# Altium footprint library HDR-TH_19P-P2.54-V-F.PcbLib: 1 footprints
Each footprint in its own frame and in the unit in brackets; x right, y up, seen from the top. Pads: shape width x height; smd on the part's side, far side on the other; paste and mask are expansions set on the pad; w line width, h text height; cw(c..) or ccw(c..) is an arc to the next point about the centre after c.
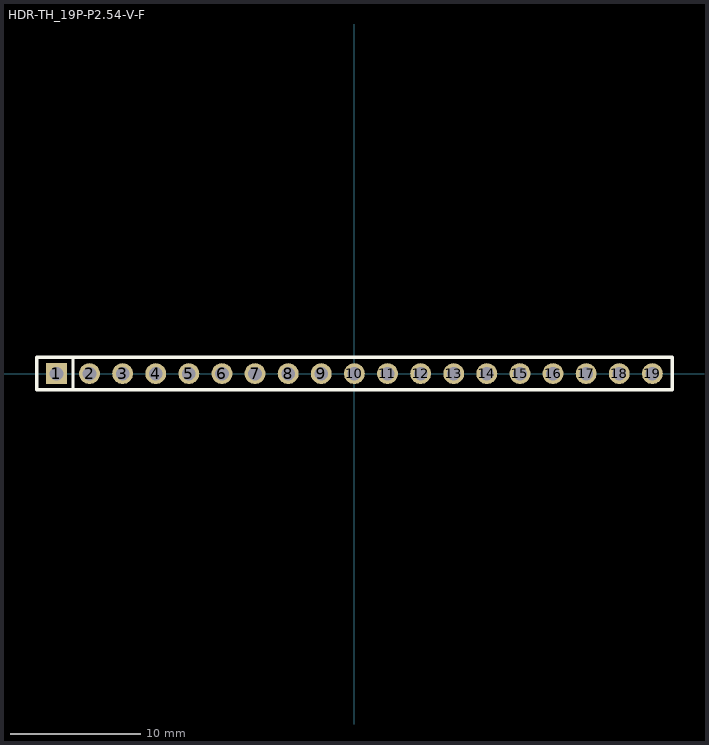
[diagram p0: the footprint, top view; thin cyan lines are the x and y axes]

## HDR-TH_19P-P2.54-V-F [mm]
pads (19):
  rect 1.6x1.6 hole 1.05: 1(-22.86,0)
  round 1.6 hole 1.05: 2(-20.32,0) 3(-17.78,0) 4(-15.24,0) 5(-12.7,0) 6(-10.16,0) 7(-7.62,0) 8(-5.08,0) 9(-2.54,0) 10(0,0) 11(2.54,0) 12(5.08,0) 13(7.62,0) 14(10.16,0) 15(12.7,0) 16(15.24,0) 17(17.78,0) 18(20.32,0) 19(22.86,0)
Top Overlay:
  lines w0.254: -21.59,-1.25 -21.59,1.25 ; -24.38,-1.25 -24.38,1.25 24.38,1.25 24.38,-1.25 -24.38,-1.25
Mechanical 15:
  region: 22.56,0.2 23.16,0.2 23.16,-0.2 22.56,-0.2
  region: 20.02,0.2 20.62,0.2 20.62,-0.2 20.02,-0.2
  region: 17.48,0.2 18.08,0.2 18.08,-0.2 17.48,-0.2
  region: 14.94,0.2 15.54,0.2 15.54,-0.2 14.94,-0.2
  region: 12.4,0.2 13,0.2 13,-0.2 12.4,-0.2
  region: 9.86,0.2 10.46,0.2 10.46,-0.2 9.86,-0.2
  region: 7.32,0.2 7.92,0.2 7.92,-0.2 7.32,-0.2
  region: 4.78,0.2 5.38,0.2 5.38,-0.2 4.78,-0.2
  region: 2.24,0.2 2.84,0.2 2.84,-0.2 2.24,-0.2
  region: -0.3,0.2 0.3,0.2 0.3,-0.2 -0.3,-0.2
  region: -2.84,0.2 -2.24,0.2 -2.24,-0.2 -2.84,-0.2
  region: -5.38,0.2 -4.78,0.2 -4.78,-0.2 -5.38,-0.2
  region: -7.92,0.2 -7.32,0.2 -7.32,-0.2 -7.92,-0.2
  region: -10.46,0.2 -9.86,0.2 -9.86,-0.2 -10.46,-0.2
  region: -13,0.2 -12.4,0.2 -12.4,-0.2 -13,-0.2
  region: -15.54,0.2 -14.94,0.2 -14.94,-0.2 -15.54,-0.2
  region: -18.08,0.2 -17.48,0.2 -17.48,-0.2 -18.08,-0.2
  region: -20.62,0.2 -20.02,0.2 -20.02,-0.2 -20.62,-0.2
  region: -23.16,0.2 -22.56,0.2 -22.56,-0.2 -23.16,-0.2
  region: -24.32,-1.25 -24.32,-1.275 -24.355,-1.31 -24.405,-1.31 -24.44,-1.275 -24.44,-1.25 -24.44,-1.225 -24.405,-1.19 -24.355,-1.19 -24.32,-1.225 -24.32,-1.25
  lines w0.051: -24.38,-1.25 24.38,-1.25 24.38,1.25 -24.38,1.25 -24.38,-1.25